# Altium footprint library alarm_clock.PcbLib: 2 footprints
Each footprint in its own frame and in the unit in brackets; x right, y up, seen from the top. Pads: shape width x height; smd on the part's side, far side on the other; paste and mask are expansions set on the pad; w line width, h text height; cw(c..) or ccw(c..) is an arc to the next point about the centre after c.
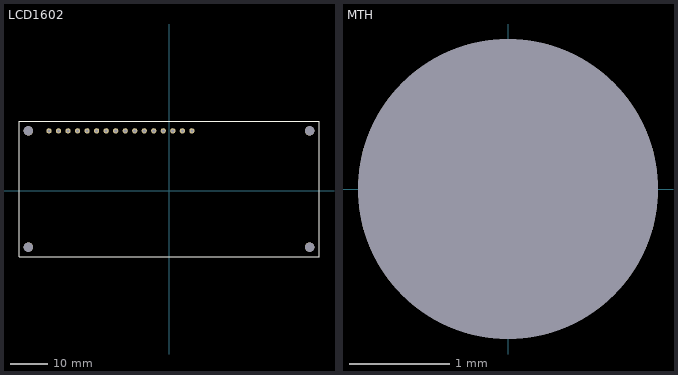
[diagram p0: the footprints below, top view; thin cyan lines are the x and y axes]

## LCD1602 [mm] "16x2 LCD"
height 13.2
pads (20):
  round 1.4 hole 0.85: 1(-32,16) 2(-29.46,16) 3(-26.92,16) 4(-24.38,16) 5(-21.84,16) 6(-19.3,16) 7(-16.76,16) 8(-14.22,16) 9(-11.68,16) 10(-9.14,16) 11(-6.6,16) 12(-4.06,16) 13(-1.52,16) 14(1.02,16) 15(3.56,16) 16(6.1,16)
  round 2.5 hole 2.5 unplated: ""(-37.5,-15) ""(-37.5,16) ""(37.5,-15) ""(37.5,16)
Top Overlay:
  lines w0.15: -40,-17.5 -40,18.5 40,18.5 40,-17.5 -40,-17.5
3D body "DFRobot_1602_LCD.STEP": height 10.76, standoff 0.16, extent -40,-17.5 40,18.5

## MTH [mm] "Mounting Hole 3mm Diameter"
pads (1):
  round 3 hole 3 unplated: ""(0,0)